# Altium schematic symbol library 2301828-1.SchLib: 1 symbol
Pins are listed as number, name and electrical type; pins without a type are passive.

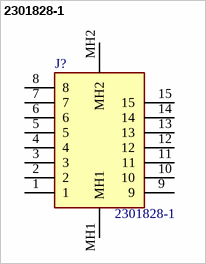
[diagram p0: symbol 2301828-1]

## 2301828-1
designator J?
Body Features: Connector Profile High; Manufacturer_Name: TE Connectivity; Geometry.Height: 12.48mm; Manufacturer_Part_Number: 2301828-1; Mouser Part Number: 571-2301828-1; Mouser Price/Stock: https://www.mouser.co.uk/ProductDetail/TE-Connectivity/2301828-1?qs=byeeYqUIh0OzT0Qo7TiYRg%3D%3D; Arrow Part Number: 2301828-1; Arrow Price/Stock: https://www.arrow.com/en/products/2301828-1/te-connectivity; Datasheet Link: https://www.arrow.com/en/products/2301828-1/te-connectivity
footprint 23018281
pins: 1, 2, 3, 4, 5, 6, 7, 8, 9, 10, 11, 12, 13, 14, 15, MH1, MH2